# Altium schematic symbol library Hittite.SchLib: 1 symbol
Pins are listed as number, name and electrical type; pins without a type are passive.

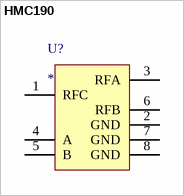
[diagram p0: symbol HMC190]

## HMC190
designator U?
Value: HMC190
pins: 1 RFC, 2 GND, 3 RFA, 4 A, 5 B, 6 RFB, 7 GND, 8 GND